# EAGLE library part ED555/15 (library con-ost)
HEADER
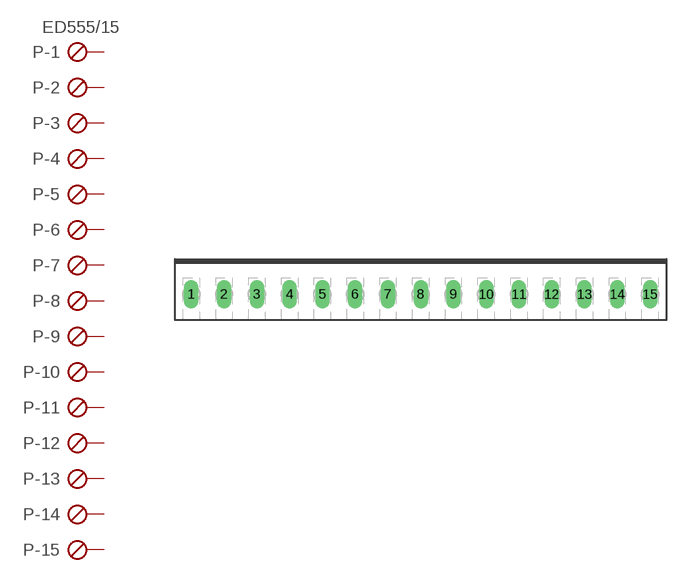
[diagram p27: symbol with the pads of ED555/15; footprint ED555/15]

Designator prefix P; gates -1=KLV-1 -2=KL-1 -3=KL-1 -4=KL-1 -5=KL-1 -6=KL-1 -7=KL-1 -8=KL-1 -9=KL-1 -10=KL-1 -11=KL-1 -12=KL-1 -13=KL-1 -14=KL-1 -15=KL-1

## ED555/15  [ED555/15]
1  -1:P  pas
2  -2:P  pas
3  -3:P  pas
4  -4:P  pas
5  -5:P  pas
6  -6:P  pas
7  -7:P  pas
8  -8:P  pas
9  -9:P  pas
10  -10:P  pas
11  -11:P  pas
12  -12:P  pas
13  -13:P  pas
14  -14:P  pas
15  -15:P  pas

## Footprint ED555/15 (pad centres in mm)
SCREW TERMINAL 3.5mm
drill 1.016 long: 1 -24.5,0; 2 -21,0; 3 -17.5,0; 4 -14,0; 5 -10.5,0; 6 -7,0; 7 -3.5,0; 8 0,0; 9 3.5,0; 10 7,0; 11 10.5,0; 12 14,0; 13 17.5,0; 14 21,0; 15 24.5,0